# Altium footprint library ee_453_yourname.PcbLib: 35 footprints (part 3 of 3)
Each footprint in its own frame and in the unit in brackets; x right, y up, seen from the top. Pads: shape width x height; smd on the part's side, far side on the other; paste and mask are expansions set on the pad; w line width, h text height; cw(c..) or ccw(c..) is an arc to the next point about the centre after c.
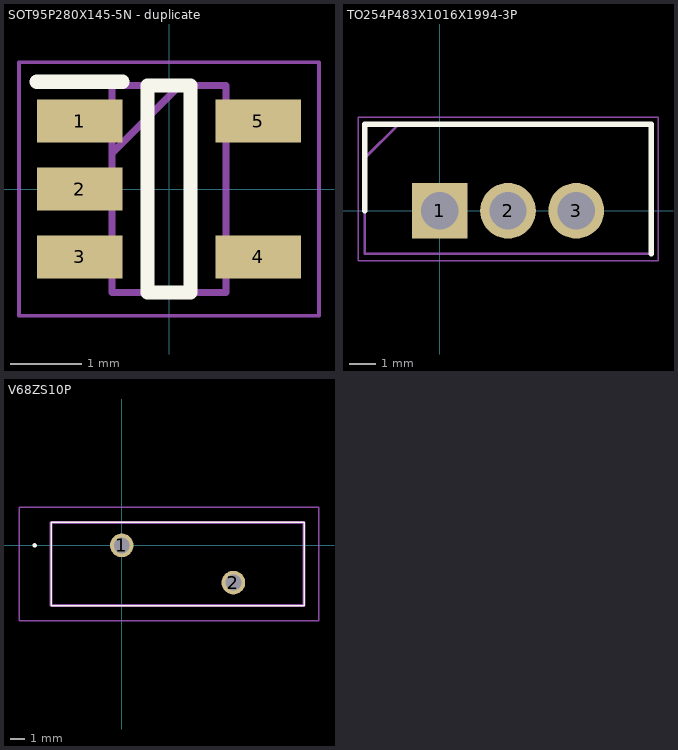
[diagram p2: the footprints below, top view; thin cyan lines are the x and y axes]

## SOT95P280X145-5N - duplicate [mm]
pads (5):
  rect 1.2x0.6 smd: 1(-1.25,0.95) 2(-1.25,0) 3(-1.25,-0.95) 4(1.25,-0.95) 5(1.25,0.95)
Top Overlay:
  lines w0.2: -1.85,1.5 -0.65,1.5 ; -0.3,-1.45 -0.3,1.45 0.3,1.45 0.3,-1.45 -0.3,-1.45
Mechanical 13:
  lines w0.1: -0.8,0.5 0.15,1.45 ; -0.8,-1.45 -0.8,1.45 0.8,1.45 0.8,-1.45 -0.8,-1.45
Mechanical 15:
  lines w0.05: -2.1,-1.775 -2.1,1.775 2.1,1.775 2.1,-1.775 -2.1,-1.775
3D body "SN74LV1T34DBVRG4.stp": height 1.45, standoff 0, extent -1.4,-1.45 1.4,1.45

## TO254P483X1016X1994-3P [mm]
pads (3):
  rect 2.07x2.07 hole 1.38: 1(0,0)
  round 2.07 hole 1.38: 2(2.54,0) 3(5.08,0)
Top Overlay:
  lines w0.2: -2.795,0 -2.795,3.225 7.875,3.225 7.875,-1.605
Mechanical 13:
  lines w0.1: -2.795,1.955 -1.525,3.225 ; -2.795,-1.605 -2.795,3.225 7.875,3.225 7.875,-1.605 -2.795,-1.605
Mechanical 15:
  lines w0.05: -3.045,-1.855 -3.045,3.475 8.125,3.475 8.125,-1.855 -3.045,-1.855
3D body "IRFB4615PBF.stp": height 18.86, standoff -17.4, extent -2.54,-1.605 7.62,3.225

## V68ZS10P [mm]
pads (2):
  round 1.59 hole 1.06: 1(0,0) 2(7.5,-2.5)
Top Overlay:
  lines w0.1: -4.75,-4.05 12.25,-4.05 12.25,1.55 -4.75,1.55 -4.75,-4.05
  lines w0.2: -5.9,0 ccw(c-5.85,0) -5.8,0 ; -5.9,0 cw(c-5.85,0) -5.8,0 ; -5.9,0 ccw(c-5.85,0) -5.8,0
Mechanical 13:
  lines w0.2: -4.75,-4.05 12.25,-4.05 12.25,1.55 -4.75,1.55 -4.75,-4.05
Mechanical 15:
  lines w0.1: -6.9,-5.05 13.25,-5.05 13.25,2.55 -6.9,2.55 -6.9,-5.05
3D body "V68ZS10P.stp": height 20.1, standoff -5, extent -4.75,-4.05 12.25,1.55